# Altium schematic symbol library TPA2005D1.SchLib: 1 symbol
Pins are listed as number, name and electrical type; pins without a type are passive.

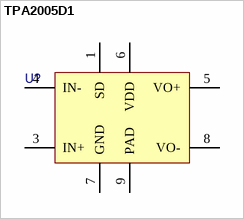
[diagram p0: symbol TPA2005D1]

## TPA2005D1
designator U?  (value not drawn)
pins: 1 SD, 3 IN+, 4 IN-, 5 VO+, 6 VDD, 7 GND, 8 VO-, 9 PAD